# Altium footprint library MELF.PcbLib: 1 footprints
Each footprint in its own frame and in the unit in brackets; x right, y up, seen from the top. Pads: shape width x height; smd on the part's side, far side on the other; paste and mask are expansions set on the pad; w line width, h text height; cw(c..) or ccw(c..) is an arc to the next point about the centre after c.
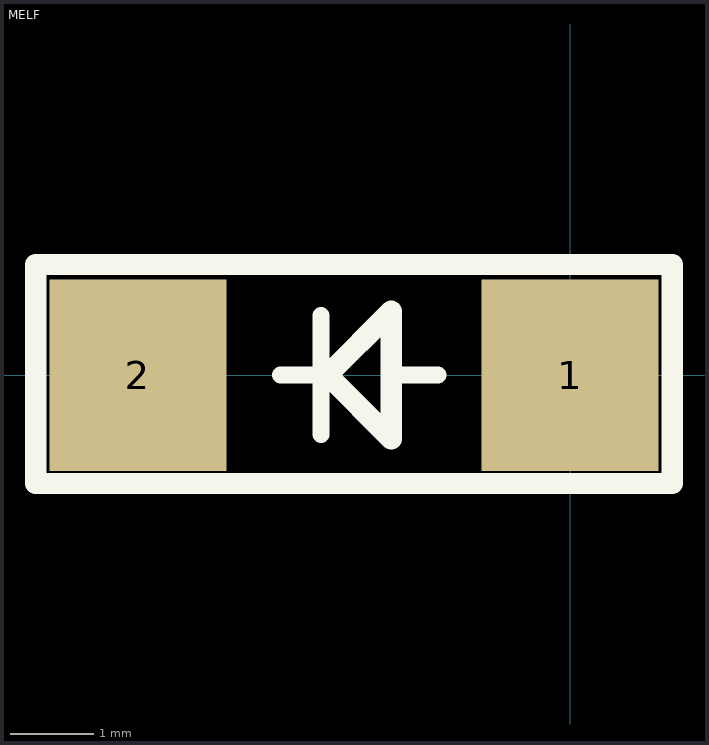
[diagram p0: the footprint, top view; thin cyan lines are the x and y axes]

## MELF [mil]
pads (2):
  rect 83x90 smd: 1(0,0) 2(-203,0)
TopOverlay:
  lines w8: -136,0 -117,0 ; -117,-28 -117,28 ; -84,0 -62,0
  lines w10: -251,-51 48,-51 48,52 -251,52 -251,-51 ; -114,0 -84,30 -84,0 -84,-30 -114,0